# Altium schematic symbol library AltiumDesigner.SchLib: 2 symbols
Pins are listed as number, name and electrical type; pins without a type are passive.

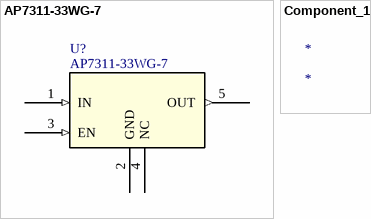
[diagram p0: symbols AP7311-33WG-7 to Component_1]

## AP7311-33WG-7
designator U?
Imported; Vendor: Diodes Inc; Built_By: EMA_UL_Team; Manufacturer_Part_Number: AP7311-33WG-7; RefDes: RefDes; Type: DEV; Value: Value
footprint SOT25
pins: 1 IN (in), 2 GND (power), 3 EN (in), 4 NC, 5 OUT (out)

## Component_1
designator *